# Altium footprint library XD-RF-5V.PcbLib: 1 footprints
Each footprint in its own frame and in the unit in brackets; x right, y up, seen from the top. Pads: shape width x height; smd on the part's side, far side on the other; paste and mask are expansions set on the pad; w line width, h text height; cw(c..) or ccw(c..) is an arc to the next point about the centre after c.
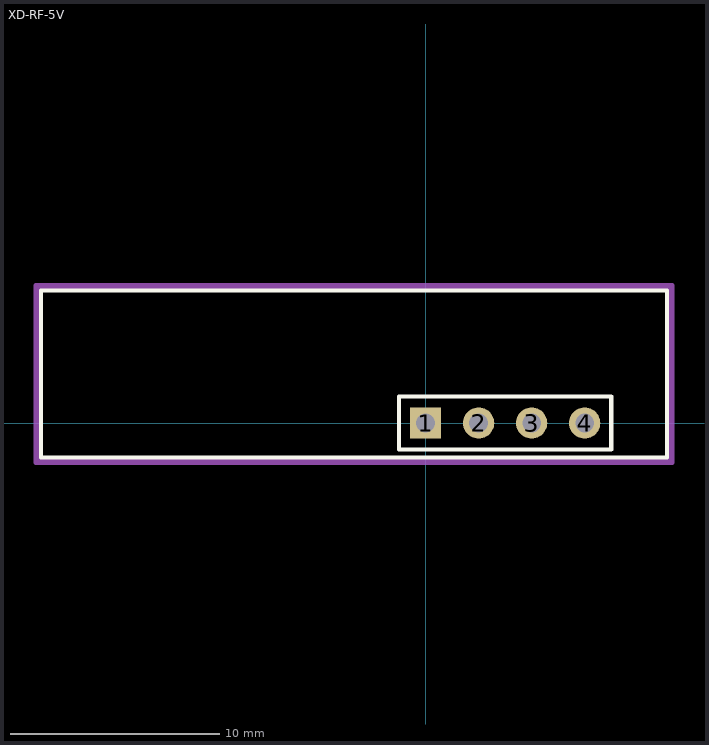
[diagram p0: the footprint, top view; thin cyan lines are the x and y axes]

## XD-RF-5V [mm]
pads (4):
  rect 1.5x1.5 hole 0.9: 1(0,0)
  round 1.5 hole 0.9: 2(2.54,0) 3(5.08,0) 4(7.62,0)
Top Overlay:
  lines w0.2: -18.415,-1.651 -18.415,6.35 11.557,6.35 11.557,-1.651 -18.415,-1.651 ; -1.27,-1.27 8.89,-1.27 8.89,1.27 -1.27,1.27 -1.27,-1.27
Top Assembly:
  lines w0.2: -18.542,-1.778 11.684,-1.778 11.684,6.477 -18.542,6.477 -18.542,-1.778
Top Courtyard:
  lines w0.2: -18.669,-1.905 -18.669,6.604 11.811,6.604 11.811,-1.905 -18.669,-1.905
3D body "User Library-XD-RF-5V.STEP": height 14.75, standoff -4.25, extent -18.443,-1.587 11.557,6.413